# Altium footprint library IOH2.PcbLib: 1 footprints
Each footprint in its own frame and in the unit in brackets; x right, y up, seen from the top. Pads: shape width x height; smd on the part's side, far side on the other; paste and mask are expansions set on the pad; w line width, h text height; cw(c..) or ccw(c..) is an arc to the next point about the centre after c.
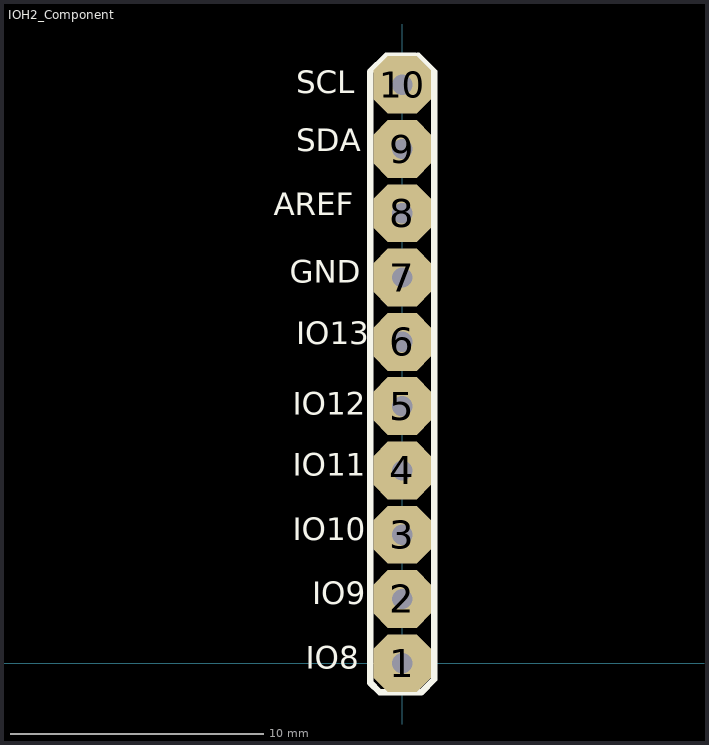
[diagram p0: the footprint, top view; thin cyan lines are the x and y axes]

## IOH2_Component [mil]
pads (10):
  oct 90x90 hole 31.5: 1(0,0) 2(0,100) 3(0,200) 4(0,300) 5(0,400) 6(0,500) 7(0,600) 8(0,700) 9(0,800) 10(0,900)
Top Overlay:
  lines w10: 20,945 15,945 -25,945 -50,920 -50,-20 -50,-30 -35,-45 -20,-45 30,-45 50,-25 50,920 25,945
  text "SCL" at -165,875 h60
  text "SDA" at -165,785 h60
  text "AREF" at -200,685 h60
  text "GND" at -175,580 h60
  text "IO13" at -165,485 h60
  text "IO12" at -170,375 h60
  text "IO11" at -170,280 h60
  text "IO10" at -170,180 h60
  text "IO9" at -140,80 h60
  text "IO8" at -150,-20 h60